# Altium footprint library PcbLib1.PcbLib: 95 footprints (part 5 of 6)
Each footprint in its own frame and in the unit in brackets; x right, y up, seen from the top. Pads: shape width x height; smd on the part's side, far side on the other; paste and mask are expansions set on the pad; w line width, h text height; cw(c..) or ccw(c..) is an arc to the next point about the centre after c.
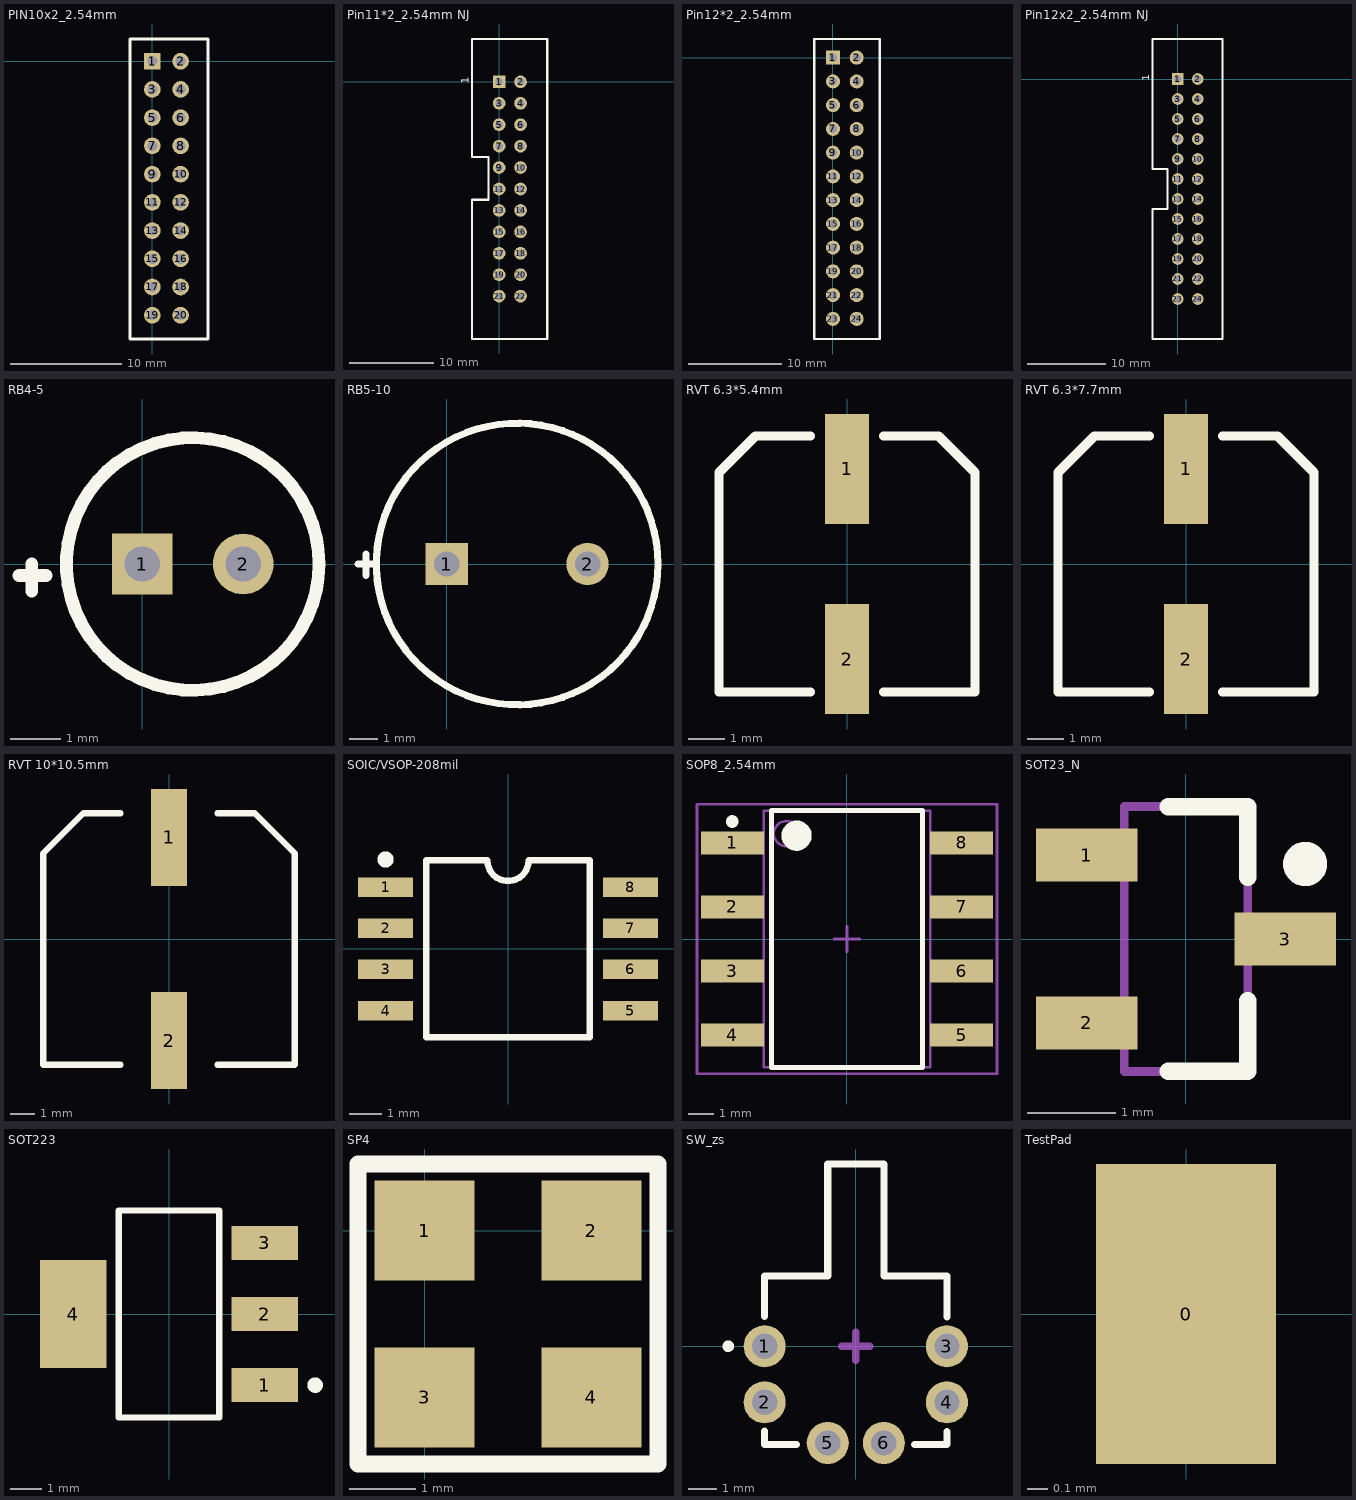
[diagram p4: the footprints below, top view; thin cyan lines are the x and y axes]

## PIN10x2_2.54mm [mm]
pads (20):
  rect 1.5x1.5 hole 0.9: 1(0,0)
  round 1.5 hole 0.9: 2(2.54,0) 3(0,-2.54) 4(2.54,-2.54) 5(0,-5.08) 6(2.54,-5.08) 7(0,-7.62) 8(2.54,-7.62) 9(0,-10.16) 10(2.54,-10.16) 11(0,-12.7) 12(2.54,-12.7) 13(0,-15.24) 14(2.54,-15.24) 15(0,-17.78) 16(2.54,-17.78) 17(0,-20.32) 18(2.54,-20.32) 19(0,-22.86) 20(2.54,-22.86)
Top Overlay:
  lines w0.254: -2,-25 5,-25 5,2 -2,2 -2,-25

## Pin11*2_2.54mm NJ [mm]
pads (22):
  rect 1.5x1.5 hole 0.9: 1(0,0)
  round 1.5 hole 0.9: 2(2.54,0) 3(0,-2.54) 4(2.54,-2.54) 5(0,-5.08) 6(2.54,-5.08) 7(0,-7.62) 8(2.54,-7.62) 9(0,-10.16) 10(2.54,-10.16) 11(0,-12.7) 12(2.54,-12.7) 13(0,-15.24) 14(2.54,-15.24) 15(0,-17.78) 16(2.54,-17.78) 17(0,-20.32) 18(2.54,-20.32) 19(0,-22.86) 20(2.54,-22.86) 21(0,-25.4) 22(2.54,-25.4)
Top Overlay:
  lines w0.254: -3.2,-30.48 -3.2,-13.97 -1.27,-13.97 -1.27,-8.89 -3.2,-8.89 -3.2,5.08 5.7,5.08 5.7,-30.48 -3.2,-30.48
  text "1" at -3.6,-0.2 h0.89
3D body: height 1, standoff 0, extent -3.048,-30.124 5.563,4.953
3D body: height 9, standoff 0, extent -3.048,-30.124 5.563,4.953
3D body: height 8, standoff -3, extent -0.279,-0.254 0.28,0.254
3D body: height 8, standoff -3, extent 2.261,-2.794 2.819,-2.286
3D body: height 8, standoff -3, extent 2.261,-0.254 2.819,0.254
3D body: height 8, standoff -3, extent -0.279,-2.794 0.279,-2.286
3D body: height 8, standoff -3, extent -0.279,-5.334 0.279,-4.826
3D body: height 8, standoff -3, extent 2.261,-5.334 2.819,-4.826
3D body: height 8, standoff -3, extent -0.279,-7.874 0.279,-7.366
3D body: height 8, standoff -3, extent 2.261,-7.874 2.819,-7.366
3D body: height 8, standoff -3, extent 2.261,-10.414 2.819,-9.906
3D body: height 8, standoff -3, extent -0.279,-10.414 0.28,-9.906
3D body: height 8, standoff -3, extent -0.279,-12.954 0.279,-12.446
3D body: height 8, standoff -3, extent 2.261,-12.954 2.82,-12.446
3D body: height 8, standoff -3, extent 2.261,-15.494 2.819,-14.986
3D body: height 8, standoff -3, extent -0.279,-15.494 0.279,-14.986
3D body: height 8, standoff -3, extent -0.279,-18.034 0.28,-17.526
3D body: height 8, standoff -3, extent 2.261,-18.034 2.82,-17.526
3D body: height 8, standoff -3, extent -0.279,-20.574 0.279,-20.066
3D body: height 8, standoff -3, extent 2.261,-20.574 2.819,-20.066
3D body: height 8, standoff -3, extent -0.279,-23.114 0.279,-22.606
3D body: height 8, standoff -3, extent 2.261,-23.114 2.819,-22.606
3D body: height 8, standoff -3, extent -0.279,-25.654 0.28,-25.146
3D body: height 8, standoff -3, extent 2.261,-25.654 2.819,-25.146

## Pin12*2_2.54mm [mm]
pads (24):
  rect 1.5x1.5 hole 0.9: 1(0,0)
  round 1.5 hole 0.9: 2(2.54,0) 3(0,-2.54) 4(2.54,-2.54) 5(0,-5.08) 6(2.54,-5.08) 7(0,-7.62) 8(2.54,-7.62) 9(0,-10.16) 10(2.54,-10.16) 11(0,-12.7) 12(2.54,-12.7) 13(0,-15.24) 14(2.54,-15.24) 15(0,-17.78) 16(2.54,-17.78) 17(0,-20.32) 18(2.54,-20.32) 19(0,-22.86) 20(2.54,-22.86) 21(0,-25.4) 22(2.54,-25.4) 23(0,-27.94) 24(2.54,-27.94)
Top Overlay:
  lines w0.254: -2,-30.1 -2,2 5,2 5,-30.1 -1.9,-30.1

## Pin12x2_2.54mm NJ [mm] "W8.8mm"
height 9
pads (24):
  rect 1.5x1.5 hole 0.9: 1(0,0)
  round 1.5 hole 0.9: 2(2.54,0) 3(0,-2.54) 4(2.54,-2.54) 5(0,-5.08) 6(2.54,-5.08) 7(0,-7.62) 8(2.54,-7.62) 9(0,-10.16) 10(2.54,-10.16) 11(0,-12.7) 12(2.54,-12.7) 13(0,-15.24) 14(2.54,-15.24) 15(0,-17.78) 16(2.54,-17.78) 17(0,-20.32) 18(2.54,-20.32) 19(0,-22.86) 20(2.54,-22.86) 21(0,-25.4) 22(2.54,-25.4) 23(0,-27.94) 24(2.54,-27.94)
Top Overlay:
  lines w0.254: -3.2,-33.02 -3.2,-16.51 -1.27,-16.51 -1.27,-11.43 -3.2,-11.43 -3.2,5.08 5.7,5.08 5.7,-33.02 -3.2,-33.02
  text "1" at -3.6,-0.2 h0.89
3D body: height 1, standoff 0, extent -3.048,-32.893 5.563,4.953
3D body: height 9, standoff 0, extent -3.048,-32.893 5.563,4.953
3D body: height 8, standoff -3, extent -0.279,-0.254 0.28,0.254
3D body: height 8, standoff -3, extent 2.261,-2.794 2.819,-2.286
3D body: height 8, standoff -3, extent 2.261,-0.254 2.819,0.254
3D body: height 8, standoff -3, extent -0.279,-2.794 0.279,-2.286
3D body: height 8, standoff -3, extent -0.279,-5.334 0.279,-4.826
3D body: height 8, standoff -3, extent 2.261,-5.334 2.819,-4.826
3D body: height 8, standoff -3, extent -0.279,-7.874 0.279,-7.366
3D body: height 8, standoff -3, extent 2.261,-7.874 2.819,-7.366
3D body: height 8, standoff -3, extent 2.261,-10.414 2.819,-9.906
3D body: height 8, standoff -3, extent -0.279,-10.414 0.28,-9.906
3D body: height 8, standoff -3, extent -0.279,-12.954 0.279,-12.446
3D body: height 8, standoff -3, extent 2.261,-12.954 2.82,-12.446
3D body: height 8, standoff -3, extent 2.261,-15.494 2.819,-14.986
3D body: height 8, standoff -3, extent -0.279,-15.494 0.279,-14.986
3D body: height 8, standoff -3, extent -0.279,-18.034 0.28,-17.526
3D body: height 8, standoff -3, extent 2.261,-18.034 2.82,-17.526
3D body: height 8, standoff -3, extent -0.279,-20.574 0.279,-20.066
3D body: height 8, standoff -3, extent 2.261,-20.574 2.819,-20.066
3D body: height 8, standoff -3, extent -0.279,-23.114 0.279,-22.606
3D body: height 8, standoff -3, extent 2.261,-23.114 2.819,-22.606
3D body: height 8, standoff -3, extent -0.279,-25.654 0.28,-25.146
3D body: height 8, standoff -3, extent 2.261,-25.654 2.819,-25.146
3D body: height 8, standoff -3, extent -0.279,-28.194 0.279,-27.686
3D body: height 8, standoff -3, extent 2.261,-28.194 2.819,-27.686

## RB4-5 [mm]
pads (2):
  rect 1.2x1.2 hole 0.7: 1(0,0)
  round 1.2 hole 0.7: 2(2,0)
Top Overlay:
  circle w0.254: c1,0 r2.5
  lines w0.254: -2.438,-0.229 -1.905,-0.229 ; -2.184,-0.533 -2.184,0

## RB5-10 [mm]
pads (2):
  rect 1.5x1.5 hole 0.9: 1(0,0)
  round 1.5 hole 0.9: 2(5,0)
Top Overlay:
  circle w0.254: c2.5,0 r5
  lines w0.254: -3.15,0 -2.642,0 ; -2.87,-0.406 -2.87,0.356

## RVT 6.3*5.4mm [mm]
pads (2):
  rect 1.2x3 smd: 1(0,2.6) 2(0,-2.6)
Top Overlay:
  lines w0.254: -1,-3.5 -3.5,-3.5 -3.5,2.5 -2.5,3.5 -1,3.5 ; 1,-3.5 3.5,-3.5 3.5,2.5 2.5,3.5 1,3.5

## RVT 6.3*7.7mm [mm]
pads (2):
  rect 1.2x3 smd: 1(0,2.6) 2(0,-2.6)
Top Overlay:
  lines w0.254: -1,-3.5 -3.5,-3.5 -3.5,2.5 -2.5,3.5 -1,3.5 ; 1,-3.5 3.5,-3.5 3.5,2.5 2.5,3.5 1,3.5

## RVT 10*10.5mm [mm]
pads (2):
  rect 1.5x4 smd: 1(0,4.2) 2(0,-4.2)
Top Overlay:
  lines w0.254: -2,-5.2 -5.2,-5.2 -5.2,3.538 -3.538,5.2 -2,5.2 ; 2,-5.2 5.2,-5.2 5.2,3.5 5.2,3.538 3.538,5.2 2,5.2

## SOIC/VSOP-208mil [mm]
pads (8):
  rect 1.7x0.6 smd: 1(-3.775,1.905) 2(-3.775,0.635) 3(-3.775,-0.635) 4(-3.775,-1.905) 5(3.775,-1.905) 6(3.775,-0.635) 7(3.775,0.635) 8(3.775,1.905)
Top Overlay:
  circle w0.25: c-3.775,2.755 r0.125
  lines w0.2: -2.525,-2.725 2.525,-2.725 2.525,2.725 0.635,2.725 cw(c0,2.725) -0.635,2.725 -2.525,2.725 -2.525,-2.725

## SOP8_2.54mm [mm]
pads (8):
  rect 2.5x0.9 smd: 1(-4.55,3.81) 2(-4.55,1.27) 3(-4.55,-1.27) 4(-4.55,-3.81) 5(4.55,-3.81) 6(4.55,-1.27) 7(4.55,1.27) 8(4.55,3.81)
Top Overlay:
  circle w0.6: c-2,4.1 r0.3
  circle w0.25: c-4.55,4.66 r0.125
  lines w0.2: -3,-5.1 3,-5.1 3,5.1 -3,5.1 -3,-5.1
Mechanical 13:
  circle w0.1: c-2.4,4.18 r0.5
  lines w0.1: -3.3,-5.08 3.3,-5.08 3.3,5.08 -3.3,5.08 -3.3,-5.08
Mechanical 15:
  lines w0.1: -0.5,0 0.5,0 ; 0,-0.5 0,0.5 ; -5.95,-5.35 5.95,-5.35 5.95,5.35 -5.95,5.35 -5.95,-5.35
3D body: height 4.57, standoff 0, extent -3.3,-5.08 3.3,5.08

## SOT23_N [mm]
pads (3):
  rect 1.15x0.6 smd: 1(-1.125,0.95) 2(-1.125,-0.95) 3(1.125,0)
Top Overlay:
  circle w0.25: c1.35,0.85 r0.125
  lines w0.2: -0.2,-1.5 0.7,-1.5 0.7,-0.7 ; -0.2,1.5 0.7,1.5 0.7,0.7
Mechanical 13:
  lines w0.1: -0.7,-1.5 -0.7,1.5 0.7,1.5 0.7,-1.5 -0.7,-1.5
3D body: height 0.2, standoff 0, extent 0.584,-0.279 1.143,0.279
3D body: height 0.2, standoff 0, extent -1.016,-1.219 -0.635,-0.711
3D body: height 0.2, standoff 0, extent -1.041,0.686 -0.61,1.219
3D body: height 0.6, standoff 0.1, extent -0.66,-1.473 0.66,1.397

## SOT223 [mm]
pads (4):
  rect 2.15x1.1 smd: 1(3.1,-2.3) 2(3.1,0) 3(3.1,2.3)
  rect 2.15x3.5 smd: 4(-3.1,0)
Top Overlay:
  circle w0.25: c4.725,-2.3 r0.125
  lines w0.2: -1.625,-3.35 1.625,-3.35 1.625,3.35 -1.625,3.35 -1.625,-3.35
3D body: height 2, standoff 0, extent -1.524,-3.251 1.524,3.251

## SP4 [mm]
pads (4):
  rect 1.5x1.5 smd: 1(0,0) 2(2.5,0) 3(0,-2.5) 4(2.5,-2.5)
Top Overlay:
  lines w0.254: -1,-3.5 -1,1 3.5,1 3.5,-3.5 -1,-3.5

## SW_zs [mm] "body 5.8mm*5.8mm; LEN 10mm"
height 5.8
pads (6):
  round 1.5 hole 0.9: 1(-3.25,0) 2(-3.25,-2) 3(3.25,0) 4(3.25,-2) 5(-1,-3.45) 6(1,-3.45)
Top Overlay:
  circle w0.254: c-4.547,0 r0.08
  lines w0.254: -3.25,-3.024 -3.25,-3.5 -2.113,-3.5 ; -3.25,1.068 -3.25,2.5 -1,2.5 -1,6.5 1,6.5 1,2.5 3.25,2.5 3.25,1.043 ; 2.088,-3.5 3.25,-3.5 3.25,-3.049
Mechanical 15:
  lines w0.254: -0.5,0 0.5,0 ; 0,-0.5 0,0.5
3D body: height 4, standoff 2, extent -0.862,2.286 0.865,6.35
3D body: height 5.8, standoff 0, extent -3.123,-3.327 3.1,2.337

## TestPad [mm]
pads (1):
  rect 0.9x1.5 smd: 0(0,0)